# Altium footprint library 核心板封装库.PcbLib: 1 footprints
Each footprint in its own frame and in the unit in brackets; x right, y up, seen from the top. Pads: shape width x height; smd on the part's side, far side on the other; paste and mask are expansions set on the pad; w line width, h text height; cw(c..) or ccw(c..) is an arc to the next point about the centre after c.
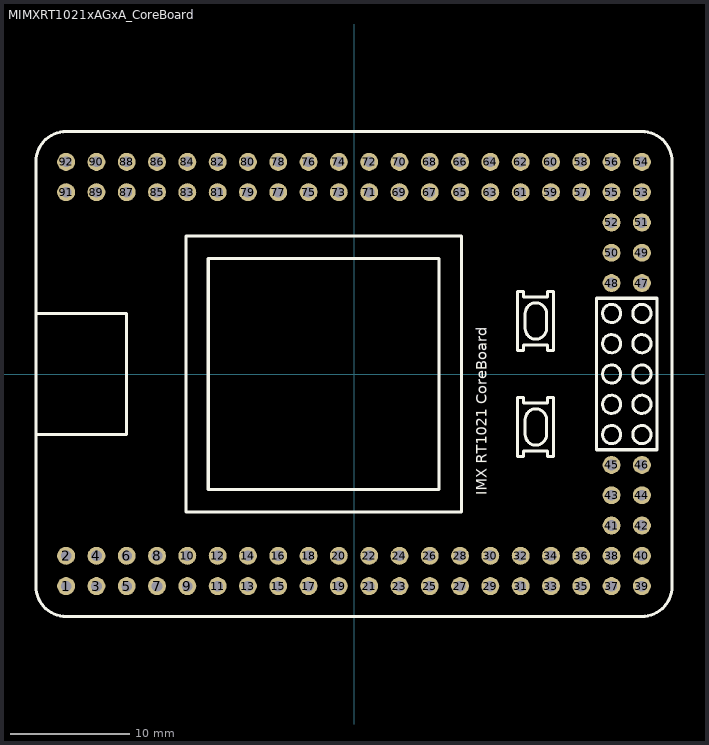
[diagram p0: the footprint, top view; thin cyan lines are the x and y axes]

## MIMXRT1021xAGxA_CoreBoard [mm] "逐飞科技i.MX RT1021核心板整体原理，可直接使用"
pads (92):
  round 1.5 hole 0.9: 1(-24.13,-17.78) 2(-24.13,-15.24) 3(-21.59,-17.78) 4(-21.59,-15.24) 5(-19.05,-17.78) 6(-19.05,-15.24) 7(-16.51,-17.78) 8(-16.51,-15.24) 9(-13.97,-17.78) 10(-13.97,-15.24) 11(-11.43,-17.78) 12(-11.43,-15.24) 13(-8.89,-17.78) 14(-8.89,-15.24) 15(-6.35,-17.78) 16(-6.35,-15.24) 17(-3.81,-17.78) 18(-3.81,-15.24) 19(-1.27,-17.78) 20(-1.27,-15.24) 21(1.27,-17.78) 22(1.27,-15.24) 23(3.81,-17.78) 24(3.81,-15.24) 25(6.35,-17.78) 26(6.35,-15.24) 27(8.89,-17.78) 28(8.89,-15.24) 29(11.43,-17.78) 30(11.43,-15.24) 31(13.97,-17.78) 32(13.97,-15.24) 33(16.51,-17.78) 34(16.51,-15.24) 35(19.05,-17.78) 36(19.05,-15.24) 37(21.59,-17.78) 38(21.59,-15.24) 39(24.13,-17.78) 40(24.13,-15.24) 41(21.59,-12.7) 42(24.13,-12.7) 43(21.59,-10.16) 44(24.13,-10.16) 45(21.59,-7.62) 46(24.13,-7.62) 47(24.13,7.62) 48(21.59,7.62) 49(24.13,10.16) 50(21.59,10.16) 51(24.13,12.7) 52(21.59,12.7) 53(24.13,15.24) 54(24.13,17.78) 55(21.59,15.24) 56(21.59,17.78) 57(19.05,15.24) 58(19.05,17.78) 59(16.51,15.24) 60(16.51,17.78) 61(13.97,15.24) 62(13.97,17.78) 63(11.43,15.24) 64(11.43,17.78) 65(8.89,15.24) 66(8.89,17.78) 67(6.35,15.24) 68(6.35,17.78) 69(3.81,15.24) 70(3.81,17.78) 71(1.27,15.24) 72(1.27,17.78) 73(-1.27,15.24) 74(-1.27,17.78) 75(-3.81,15.24) 76(-3.81,17.78) 77(-6.35,15.24) 78(-6.35,17.78) 79(-8.89,15.24) 80(-8.89,17.78) 81(-11.43,15.24) 82(-11.43,17.78) 83(-13.97,15.24) 84(-13.97,17.78) 85(-16.51,15.24) 86(-16.51,17.78) 87(-19.05,15.24) 88(-19.05,17.78) 89(-21.59,15.24) 90(-21.59,17.78) 91(-24.13,15.24) 92(-24.13,17.78)
Top Overlay:
  circle w0.254: c24.13,-5.08 r0.762
  circle w0.254: c21.59,-5.08 r0.762
  circle w0.254: c24.13,5.08 r0.762
  circle w0.254: c21.59,5.08 r0.762
  circle w0.254: c24.13,-2.54 r0.762
  circle w0.254: c21.59,-2.54 r0.762
  circle w0.254: c24.13,0 r0.762
  circle w0.254: c24.13,2.54 r0.762
  circle w0.254: c21.59,2.54 r0.762
  circle w0.254: c21.59,0 r0.762
  lines w0.254: -26.67,-5.08 -19.05,-5.08 -19.05,5.08 -26.67,5.08 ; -26.67,-17.78 ccw(c-24.13,-17.78) -24.13,-20.32 24.13,-20.32 ccw(c24.13,-17.78) 26.67,-17.78 26.67,17.78 ccw(c24.13,17.78) 24.13,20.32 -24.13,20.32 ccw(c-24.13,17.78) -26.67,17.78 -26.67,-17.78 ; -14.097,-11.557 -14.097,11.557 9.017,11.557 9.017,-11.557 -14.097,-11.557 ; -12.217,-9.677 -12.217,9.677 7.137,9.677 7.137,-9.677 -12.217,-9.677 ; 13.713,-6.929 14.197,-6.929 14.197,-6.445 16.229,-6.445 16.229,-6.929 16.713,-6.929 16.713,-6.445 16.713,-2.445 16.713,-1.961 16.229,-1.961 16.229,-2.445 14.197,-2.445 14.197,-1.961 13.713,-1.961 13.713,-2.445 13.713,-6.445 13.713,-6.929 ; 13.713,1.961 14.197,1.961 14.197,2.445 16.229,2.445 16.229,1.961 16.713,1.961 16.713,2.445 16.713,6.445 16.713,6.929 16.229,6.929 16.229,6.445 14.197,6.445 14.197,6.929 13.713,6.929 13.713,6.445 13.713,2.445 13.713,1.961 ; 14.351,-5.08 ccw(c15.24,-5.08) 16.129,-5.08 16.129,-3.81 ccw(c15.24,-3.81) 14.351,-3.81 14.351,-5.08 ; 14.351,3.81 ccw(c15.24,3.81) 16.129,3.81 16.129,5.08 ccw(c15.24,5.08) 14.351,5.08 14.351,3.81 ; 20.32,-6.35 20.32,6.35 25.4,6.35 25.4,-6.35 20.32,-6.35
  text "IMX RT1021 CoreBoard" at 11.43,-10.16 h1.52